# Altium schematic symbol library WS2812B-B.SchLib: 1 symbol
Pins are listed as number, name and electrical type; pins without a type are passive.

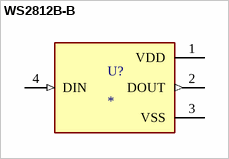
[diagram p0: symbol WS2812B-B]

## WS2812B-B
designator U?
Intelligent control LED integrated light source; MP: WS2812B-B; MF: Worldsemi; SnapEDA_Link: https://www.snapeda.com/parts/WS2812B-B/Worldsemi/view-part/5799638/?ref=snap; Package: Package; Check_prices: https://www.snapeda.com/parts/WS2812B-B/Worldsemi/view-part/5799638/?ref=eda; Availability: Unavailable; Price: None; Value: *
footprint LED_WS2812B-B
pins: 1 VDD (power), 2 DOUT (out), 3 VSS (power), 4 DIN (in)